# Altium schematic symbol library MK20DX128VLF5.SchLib: 1 symbol
Pins are listed as number, name and electrical type; pins without a type are passive.

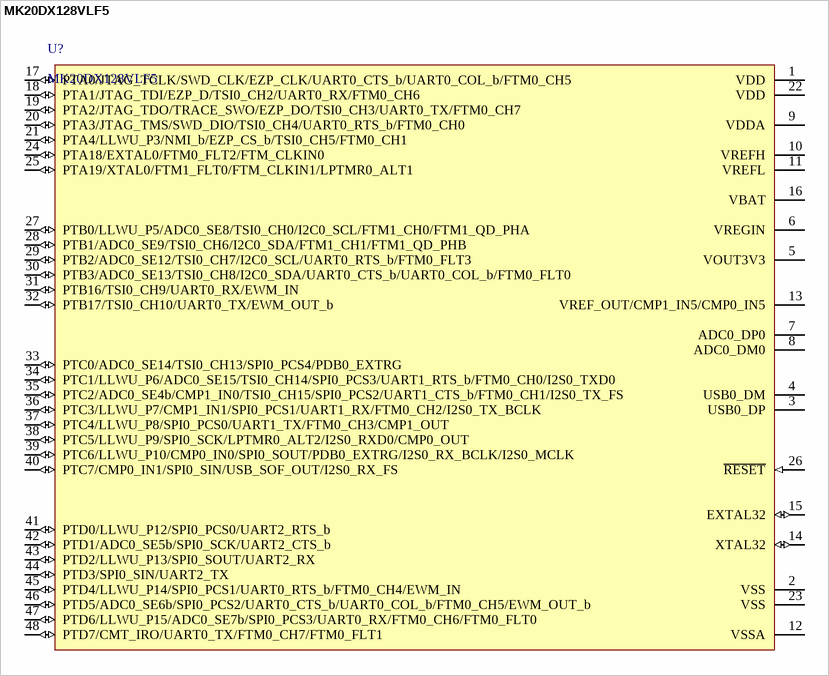
[diagram p0: symbol MK20DX128VLF5]

## MK20DX128VLF5
designator U?
pins: 1 VDD (power), 2 VSS (power), 3 USB0_DP (power), 4 USB0_DM (power), 5 VOUT3V3 (power), 6 VREGIN (power), 7 ADC0_DP0 (power), 8 ADC0_DM0 (power), 9 VDDA (power), 10 VREFH (power), 11 VREFL (power), 12 VSSA (power), 13 VREF_OUT/CMP1_IN5/CMP0_IN5 (power), 14 XTAL32 (io), 15 EXTAL32 (io), 16 VBAT (power), 17 PTA0/JTAG_TCLK/SWD_CLK/EZP_CLK/UART0_CTS_b/UART0_COL_b/FTM0_CH5 (io), 18 PTA1/JTAG_TDI/EZP_D/TSI0_CH2/UART0_RX/FTM0_CH6 (io), 19 PTA2/JTAG_TDO/TRACE_SWO/EZP_DO/TSI0_CH3/UART0_TX/FTM0_CH7 (io), 20 PTA3/JTAG_TMS/SWD_DIO/TSI0_CH4/UART0_RTS_b/FTM0_CH0 (io), 21 PTA4/LLWU_P3/NMI_b/EZP_CS_b/TSI0_CH5/FTM0_CH1 (io), 22 VDD (power), 23 VSS (power), 24 PTA18/EXTAL0/FTM0_FLT2/FTM_CLKIN0 (io), 25 PTA19/XTAL0/FTM1_FLT0/FTM_CLKIN1/LPTMR0_ALT1 (io), 26 ~{RESET} (in), 27 PTB0/LLWU_P5/ADC0_SE8/TSI0_CH0/I2C0_SCL/FTM1_CH0/FTM1_QD_PHA (io), 28 PTB1/ADC0_SE9/TSI0_CH6/I2C0_SDA/FTM1_CH1/FTM1_QD_PHB (io), 29 PTB2/ADC0_SE12/TSI0_CH7/I2C0_SCL/UART0_RTS_b/FTM0_FLT3 (io), 30 PTB3/ADC0_SE13/TSI0_CH8/I2C0_SDA/UART0_CTS_b/UART0_COL_b/FTM0_FLT0 (io), 31 PTB16/TSI0_CH9/UART0_RX/EWM_IN (io), 32 PTB17/TSI0_CH10/UART0_TX/EWM_OUT_b (io), 33 PTC0/ADC0_SE14/TSI0_CH13/SPI0_PCS4/PDB0_EXTRG (io), 34 PTC1/LLWU_P6/ADC0_SE15/TSI0_CH14/SPI0_PCS3/UART1_RTS_b/FTM0_CH0/I2S0_TXD0 (io), 35 PTC2/ADC0_SE4b/CMP1_IN0/TSI0_CH15/SPI0_PCS2/UART1_CTS_b/FTM0_CH1/I2S0_TX_FS (io), 36 PTC3/LLWU_P7/CMP1_IN1/SPI0_PCS1/UART1_RX/FTM0_CH2/I2S0_TX_BCLK (io), 37 PTC4/LLWU_P8/SPI0_PCS0/UART1_TX/FTM0_CH3/CMP1_OUT (io), 38 PTC5/LLWU_P9/SPI0_SCK/LPTMR0_ALT2/I2S0_RXD0/CMP0_OUT (io), 39 PTC6/LLWU_P10/CMP0_IN0/SPI0_SOUT/PDB0_EXTRG/I2S0_RX_BCLK/I2S0_MCLK (io), 40 PTC7/CMP0_IN1/SPI0_SIN/USB_SOF_OUT/I2S0_RX_FS (io), 41 PTD0/LLWU_P12/SPI0_PCS0/UART2_RTS_b (io), 42 PTD1/ADC0_SE5b/SPI0_SCK/UART2_CTS_b (io), 43 PTD2/LLWU_P13/SPI0_SOUT/UART2_RX (io), 44 PTD3/SPI0_SIN/UART2_TX (io), 45 PTD4/LLWU_P14/SPI0_PCS1/UART0_RTS_b/FTM0_CH4/EWM_IN (io), 46 PTD5/ADC0_SE6b/SPI0_PCS2/UART0_CTS_b/UART0_COL_b/FTM0_CH5/EWM_OUT_b (io), 47 PTD6/LLWU_P15/ADC0_SE7b/SPI0_PCS3/UART0_RX/FTM0_CH6/FTM0_FLT0 (io), 48 PTD7/CMT_IRO/UART0_TX/FTM0_CH7/FTM0_FLT1 (io)